# EAGLE library part ATXMEGA*D4 (library ic-ATMEL)
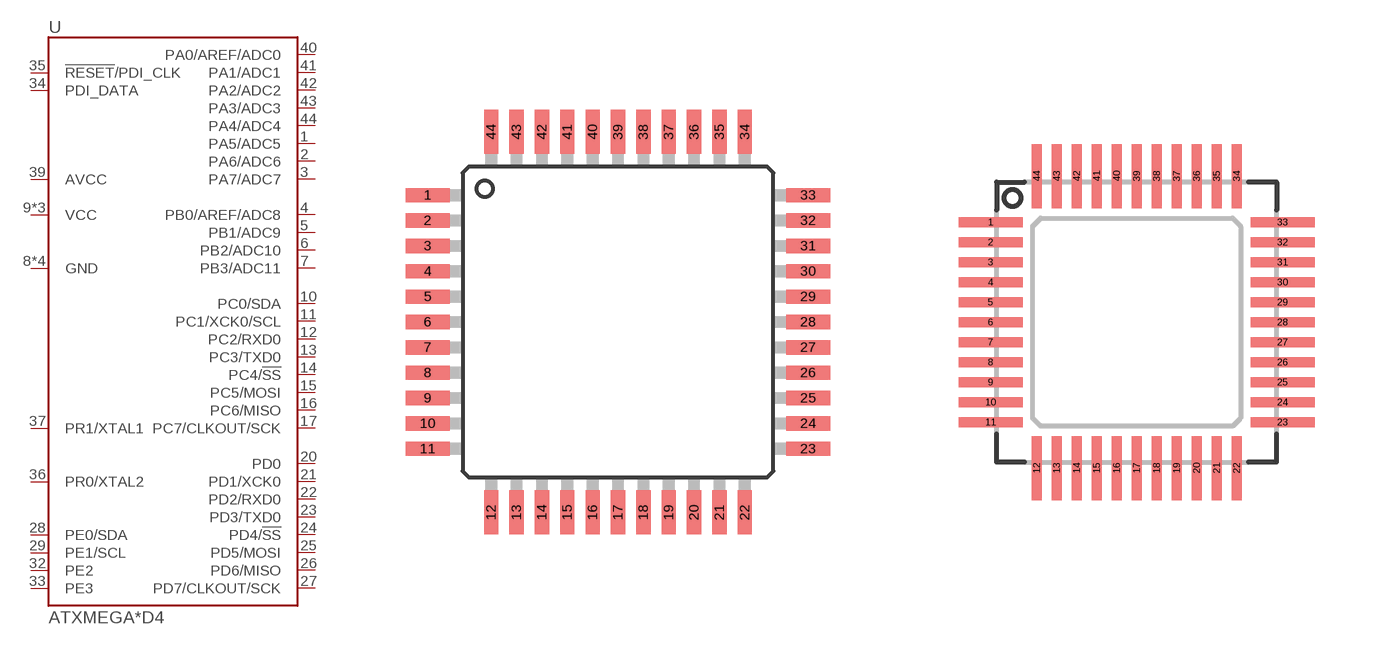
[diagram p4: symbol with the pads of QFP44-0.8; footprints QFP44-0.8, QFN44-0.5-NOPAD]

Designator prefix U

## ATXMEGA16D4-AU  [QFP44-0.8]
1  PA5/ADC5
2  PA6/ADC6
3  PA7/ADC7
4  PB0/AREF/ADC8
5  PB1/ADC9
6  PB2/ADC10
7  PB3/ADC11
8  GND
9  VCC
10  PC0/SDA
11  PC1/XCK0/SCL
12  PC2/RXD0
13  PC3/TXD0
14  PC4/!SS
15  PC5/MOSI
16  PC6/MISO
17  PC7/CLKOUT/SCK
18  GND
19  VCC
20  PD0
21  PD1/XCK0
22  PD2/RXD0
23  PD3/TXD0
24  PD4/!SS
25  PD5/MOSI
26  PD6/MISO
27  PD7/CLKOUT/SCK
28  PE0/SDA
29  PE1/SCL
30  GND
31  VCC
32  PE2
33  PE3
34  PDI_DATA
35  !RESET!/PDI_CLK
36  PR0/XTAL2
37  PR1/XTAL1
38  GND
39  AVCC
40  PA0/AREF/ADC0
41  PA1/ADC1
42  PA2/ADC2
43  PA3/ADC3
44  PA4/ADC4

## ATXMEGA16D4-MH  [QFN44-0.5-NOPAD]
Pads as for QFP44-0.8

## Footprint QFP44-0.8 (pad centres in mm)
smd 1.4 x 0.45: 1 -6,4; 2 -6,3.2; 3 -6,2.4; 4 -6,1.6; 5 -6,0.8; 6 -6,0; 7 -6,-0.8; 8 -6,-1.6; 9 -6,-2.4; 10 -6,-3.2; 11 -6,-4; 23 6,-4; 24 6,-3.2; 25 6,-2.4; 26 6,-1.6; 27 6,-0.8; 28 6,0; 29 6,0.8; 30 6,1.6; 31 6,2.4; 32 6,3.2; 33 6,4
smd 0.45 x 1.4: 12 -4,-6; 13 -3.2,-6; 14 -2.4,-6; 15 -1.6,-6; 16 -0.8,-6; 17 0,-6; 18 0.8,-6; 19 1.6,-6; 20 2.4,-6; 21 3.2,-6; 22 4,-6; 34 4,6; 35 3.2,6; 36 2.4,6; 37 1.6,6; 38 0.8,6; 39 0,6; 40 -0.8,6; 41 -1.6,6; 42 -2.4,6; 43 -3.2,6; 44 -4,6

## Footprint QFN44-0.5-NOPAD (pad centres in mm)
smd 1.6 x 0.25: 1 -3.65,2.5; 2 -3.65,2; 3 -3.65,1.5; 4 -3.65,1; 5 -3.65,0.5; 6 -3.65,0; 7 -3.65,-0.5; 8 -3.65,-1; 9 -3.65,-1.5; 10 -3.65,-2; 11 -3.65,-2.5; 23 3.65,-2.5; 24 3.65,-2; 25 3.65,-1.5; 26 3.65,-1; 27 3.65,-0.5; 28 3.65,0; 29 3.65,0.5; 30 3.65,1; 31 3.65,1.5; 32 3.65,2; 33 3.65,2.5
smd 0.25 x 1.6: 12 -2.5,-3.65; 13 -2,-3.65; 14 -1.5,-3.65; 15 -1,-3.65; 16 -0.5,-3.65; 17 0,-3.65; 18 0.5,-3.65; 19 1,-3.65; 20 1.5,-3.65; 21 2,-3.65; 22 2.5,-3.65; 34 2.5,3.65; 35 2,3.65; 36 1.5,3.65; 37 1,3.65; 38 0.5,3.65; 39 0,3.65; 40 -0.5,3.65; 41 -1,3.65; 42 -1.5,3.65; 43 -2,3.65; 44 -2.5,3.65